# Altium footprint library pico-clasp-3.PcbLib: 1 footprints
Each footprint in its own frame and in the unit in brackets; x right, y up, seen from the top. Pads: shape width x height; smd on the part's side, far side on the other; paste and mask are expansions set on the pad; w line width, h text height; cw(c..) or ccw(c..) is an arc to the next point about the centre after c.
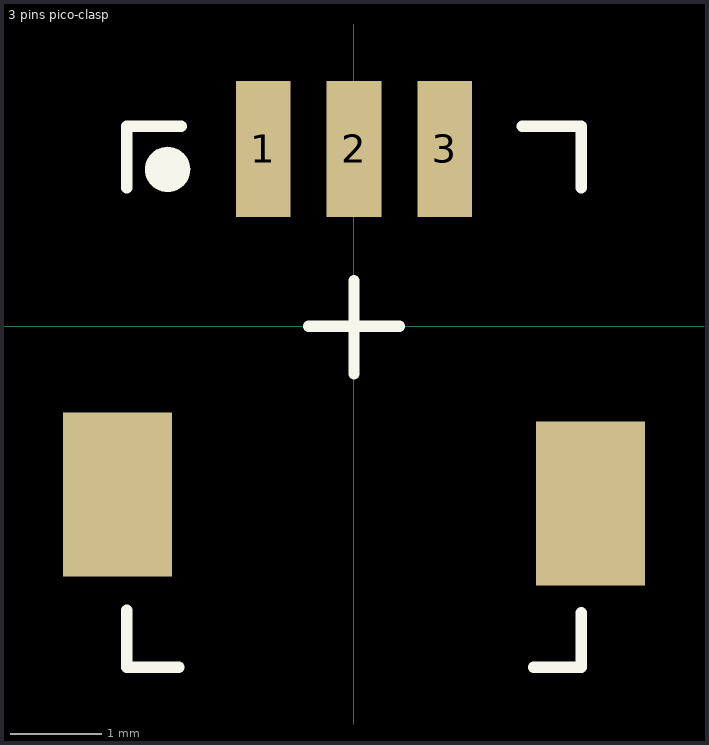
[diagram p0: the footprint, top view; thin cyan lines are the x and y axes]

## 3 pins pico-clasp [mm]
pads (6):
  rect 0.6x1.5 smd: 1(-1,1.95) 2(0,1.95) 3(1,1.95)
  rect 1.2x1.8 smd: ""(-2.6,-1.851) ""(2.6,-1.95)
  round 0.5 on Top Overlay: ""(-2.05,1.725)
Top Overlay:
  lines w0.125: -2.5,-3.125 -2.5,-3.75 -1.925,-3.75 ; -2.5,1.525 -2.5,2.2 -1.9,2.2 ; -0.5,0 0.5,0 ; 0,-0.525 0,0.5 ; 1.85,2.2 2.5,2.2 2.5,1.525 ; 1.975,-3.75 2.5,-3.75 2.5,-3.15
3D body "2023960307.stp": height 3.22, standoff 0.04, extent -2.5,-3.683 2.5,2.217